# EAGLE library part BQ27421YZFR-G1A (library tesseract)
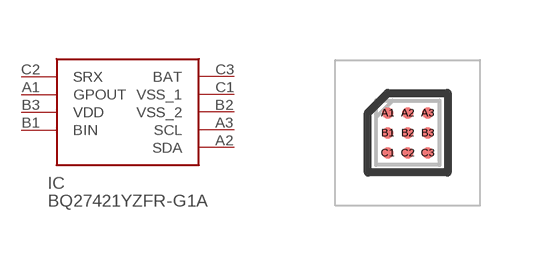
[diagram p3: symbol with the pads of BGA9C50P3X3_158X162X62; footprint BGA9C50P3X3_158X162X62]

Designator prefix IC

## BQ27421YZFR-G1A  [BGA9C50P3X3_158X162X62]
A1  GPOUT
A2  SDA
A3  SCL
B1  BIN
B2  VSS_2
B3  VDD
C1  VSS_1
C2  SRX
C3  BAT

## Footprint BGA9C50P3X3_158X162X62 (pad centres in mm)
YZF (S-XBGA-N9)-1
smd 0.29 x 0.29: A1 -0.5,0.5; A2 0,0.5; A3 0.5,0.5; B1 -0.5,0; B2 0,0; B3 0.5,0; C1 -0.5,-0.5; C2 0,-0.5; C3 0.5,-0.5